# Altium footprint library 662310235922.PcbLib: 1 footprints
Each footprint in its own frame and in the unit in brackets; x right, y up, seen from the top. Pads: shape width x height; smd on the part's side, far side on the other; paste and mask are expansions set on the pad; w line width, h text height; cw(c..) or ccw(c..) is an arc to the next point about the centre after c.
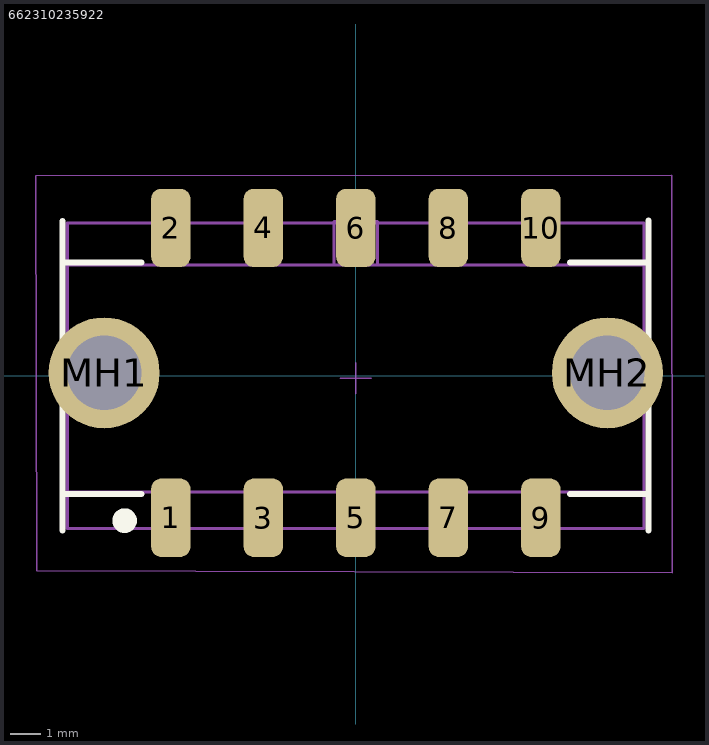
[diagram p0: the footprint, top view; thin cyan lines are the x and y axes]

## 662310235922 [mm] "Dual row SMT Right angle header With TH Metal Clip 10p"
height 8.76
pads (12):
  rrect50% 1.27x2.54 smd: 1(-5.993,-4.607) 2(-5.993,4.793) 3(-2.993,-4.607) 4(-2.993,4.793) 5(0.007,-4.607) 6(0.007,4.793) 7(3.007,-4.607) 8(3.007,4.793) 9(6.007,-4.607) 10(6.007,4.793)
  round 3.6 hole 2.41: MH1(-8.153,0.093) MH2(8.167,0.093)
Top Overlay:
  circle w0.4: c-7.49,-4.7 r0.2
  lines w0.2: -9.5,-5.025 -9.5,5.02 ; -9.493,-3.842 -6.943,-3.842 ; -9.493,3.668 -6.943,3.668 ; 6.957,-3.842 9.507,-3.842 ; 6.957,3.668 9.507,3.668 ; 9.5,-5.02 9.5,5.025
Top Assembly:
  lines w0.1: -9.343,-3.767 9.357,-3.767 ; -9.343,3.593 9.357,3.593 ; -0.693,3.593 -0.693,4.993 0.707,4.993 0.707,3.593 ; -9.35,-4.95 -9.35,4.95 9.35,4.95 9.35,-4.95 -9.35,-4.95
Top Courtyard:
  lines w0.05: -0.493,-0.087 0.507,-0.087 ; 0.007,-0.587 0.007,0.413 ; -10.37,6.49 10.26,6.5 10.27,-6.39 -10.34,-6.33 -10.37,6.49
3D body "662310235922.stp": height 11.42, standoff -3.08, extent -9.343,-5.537 9.357,5.863